# Altium schematic symbol library Schlib1.SchLib: 21 symbols
Pins are listed as number, name and electrical type; pins without a type are passive.

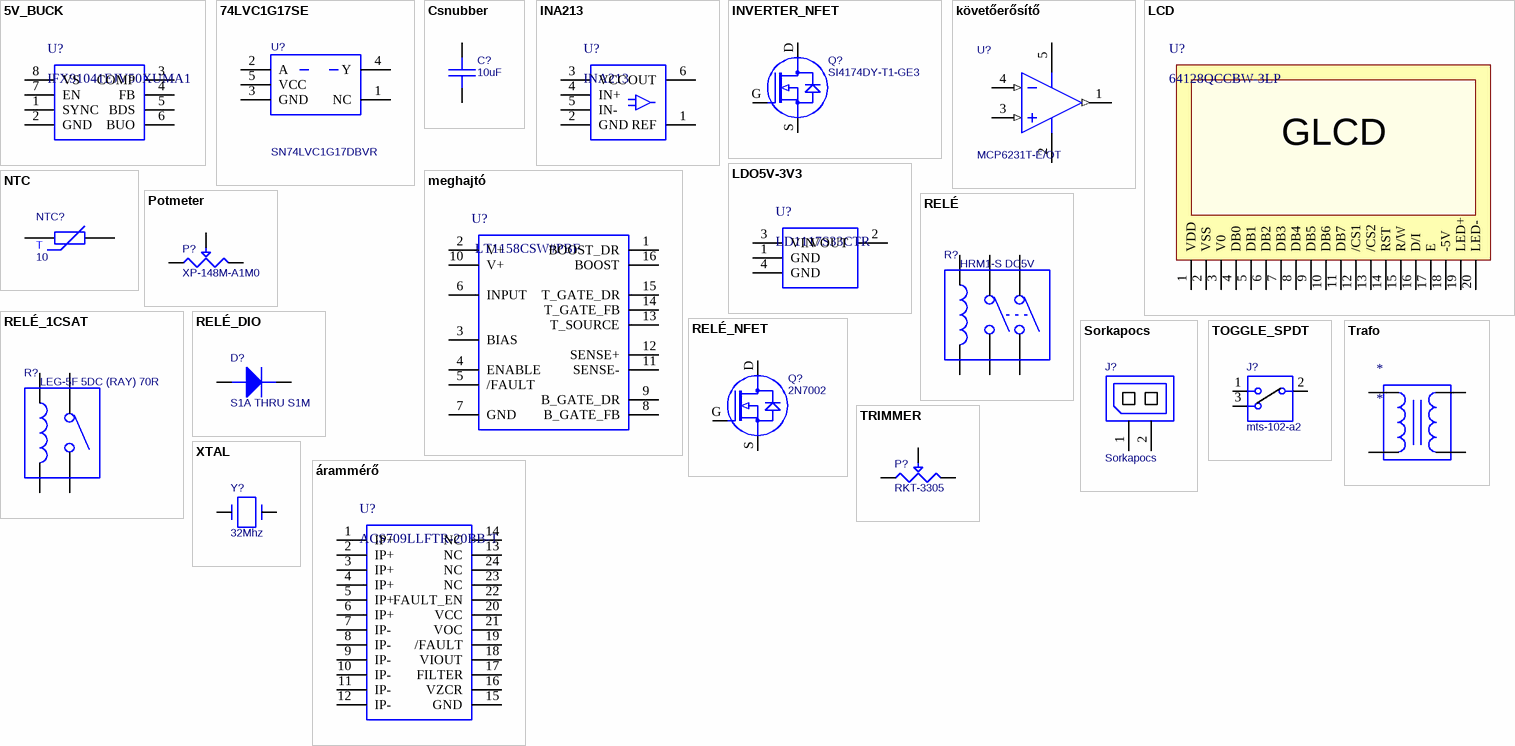
[diagram p0: symbols 5V_BUCK to árammérő]

## 5V_BUCK
designator U?, comment IFX91041EJV50XUMA1
Code: 2432504; Supplier: Farnell; Part number: IFX91041EJV50XUMA1
footprint BUCK_CONVERTER (SOIC, 8-Leads, Body 4.9x3.9mm, Pitch 1.27mm)
pins: 1 SYNC, 2 GND, 3 COMP, 4 FB, 5 BDS, 6 BUO, 7 EN, 8 VS

## 74LVC1G17SE
designator U?, comment SN74LVC1G17DBVR
Supplier: Lomex; Part number: SN74LVC1G17DBVR; Code: 87-06-00
footprint SOT23-5
pins: 1 NC, 2 A, 3 GND, 4 Y, 5 VCC

## Csnubber
designator C?, comment 10uF
Part number: GRM31CR6YA106KA12L; Code: 1797011; Supplier: Farnell
footprint CAPC3216X07N (Chip Capacitor, 2-Leads, Body 3,10x1,60mm, IPC Low Density)
pins: 1, 2

## INA213
designator U?
Part number: INA213AIDCKT; Code: 1754261; Supplier: Farnell
footprint SOT65P210X110-6N (SOT23, 6-Leads, Body 2,00x2,10mm, Pitch 0,65mm, IPC Medium Density)
pins: 1 REF, 2 GND, 3 VCC, 4 IN+, 5 IN-, 6 OUT

## INVERTER_NFET
designator Q?, comment SI4174DY-T1-GE3
Code: 1840422; Part number: SI4174DY-T1-GE3; Supplier: Farnell
footprint SOIC8-InvFet (SOIC, 8-Leads, Body 4.9x3.9mm, Pitch 1.27mm)
pins: D, G, S

## követőerősítő
designator U?, comment MCP6231T-E/OT
Code: 1840879; Supplier: Lomex; Part number: MCP6231T-E/OT
footprint SOT23-5
pins: 1 OUT (out), 2 GND (power), 3 IN+ (in), 4 IN- (in), 5 VDD (power)

## LCD
designator U?, comment 64128QCCBW-3LP
Supplier: Lomex; Code: 37-00-71; Part number: 64128QCCBW-3LP
footprint LCD
pins: 1 VDD, 2 VSS, 3 V0, 4 DB0, 5 DB1, 6 DB2, 7 DB3, 8 DB4, 9 DB5, 10 DB6, 11 DB7, 12 /CS1, 13 /CS2, 14 RST, 15 R/W, 16 D/I, 17 E, 18 -5V, 19 LED+, 20 LED-
text: GLCD

## LDO5V-3V3
designator U?, comment LD1117S33CTR
Code: 1467779; Supplier: Farnell; Part number: LD1117S33CTR
footprint SOT230P700X180-4N (SOT223, 4-Leads, Body 6,50x7,00mm (avg), Pitch 2,30mm, IPC Medium Density)
pins: 1 GND, 2 VOUT, 3 VIN, 4 GND

## meghajtó
designator U?, comment LT1158CSW#PBF
Code: 1273473; Supplier: Farnell; Part number: LT1158CSW#PBF
footprint SOIC127P1060X265-16N (SOIC, 16-Leads, Body 10,30x7,50mm, Pitch 1,27mm, IPC Medium Density)
pins: 1 BOOST_DR, 2 V+, 3 BIAS, 4 ENABLE, 5 /FAULT, 6 INPUT, 7 GND, 8 B_GATE_FB, 9 B_GATE_DR, 10 V+, 11 SENSE-, 12 SENSE+, 13 T_SOURCE, 14 T_GATE_FB, 15 T_GATE_DR, 16 BOOST

## NTC
designator NTC?, comment 10
Part number: B57153S0100M000; Code: 1688795; Supplier: Lomex
footprint NTC
pins: 1, 2
text: T

## Potmeter
designator P?, comment XP-148M-A1M0
Supplier: Lomex; Code: 06-03-80; Part number: XP-148M-A1M0
pins: 1, 2, 3

## RELÉ
designator R?, comment HRM1-S DC5V
Code: 9479937; Supplier: Farnell; Part number: HRM1-S DC5V
footprint relay
pins: 1 VCC, 2 GND, 3 1, 4 1, 5 2, 6 2

## RELÉ_1CSAT
designator R?, comment LEG-5F 5DC (RAY) 70R
Supplier: Lomex; Code: 42-02-61; Part number: LEG-5F 5DC (RAY) 70R
pins: 1 VCC, 2 GND, 3 1, 4 1

## RELÉ_DIO
designator D?, comment S1A THRU S1M
Part number: 1A 1000V DO-214AC RECT. S1M (YET) SMA; Supplier: Lomex; Code: 83-02-64
footprint DIOM4436X25N (Molded Diode, 2-Leads, Body 4,38x3,62mm, IPC Medium Density)
pins: A ANODE, C CATHODE

## RELÉ_NFET
designator Q?, comment 2N7002
Part number: 2N7002 (NXP) N-FET 60V 0.3A 0.83W Rds>5R SOT-23 ˝12W˝ (SN7002); Supplier: Lomex; Code: 86-00-97
footprint SOT95P240X111_SGD-3N (SOT23, 3-Leads, Body 2,90x2,37mm, Pitch 0,95mm, IPC Medium Density)
pins: D, G, S

## Sorkapocs
designator J?
RM5.08 CLL5.08/2; Part number: SORKAPOCS 2 P RM5.08 CLL5.08/2 (STE) h=13.8mm LIFT.2.5mmř 24A; Supplier: Lomex; Code: 43-07-92
footprint sorkapocs
pins: 1 P1, 2 P2

## TOGGLE_SPDT
designator J?, comment mts-102-a2
Part number: TOGGLE D= 6 3P SPDT MTS-102-A2 (FEM) ON-ON 6A 125VAC 1AK.2ALL.PCB; Supplier: Lomex; Code: 45-08-76
footprint TOGGLE
pins: 1, 2, 3

## Trafo
designator *
pins: 1, 1, 2, 2

## TRIMMER
designator P?, comment RKT-3305
Supplier: Lomex; Code: 90-00-58; Part number: RKT-3305
footprint TRIMMER
pins: 1, 2, 3

## XTAL
designator Y?, comment 32Mhz
Part number: QUARZ HC49/S (NSK) 30ppm 20pF LOW PROFILE; Supplier: Lomex; code: 40-01-35
footprint XTAL
pins: 1, 2

## árammérő
designator U?, comment ACS709LLFTR-20BB-T
Code: 1858083; Supplier: Farnell; Part number: ACS709LLFTR-20BB-T
footprint SOP64P600X175-24N (SOP, 24-Leads, Body 8,66x3,91mm, Pitch 0,64mm, IPC Medium Density)
pins: 1 IP+, 2 IP+, 3 IP+, 4 IP+, 5 IP+, 6 IP+, 7 IP-, 8 IP-, 9 IP-, 10 IP-, 11 IP-, 12 IP-, 13 NC, 14 NC, 15 GND, 16 VZCR, 17 FILTER, 18 VIOUT, 19 /FAULT, 20 VCC, 21 VOC, 22 FAULT_EN, 23 NC, 24 NC